# Altium schematic symbol library 二极管.SchLib: 6 symbols
Pins are listed as number, name and electrical type; pins without a type are passive.

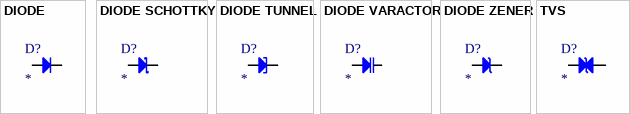
[diagram p0: symbols DIODE to TVS]

## DIODE
designator D?
普通二极管
pins: A, K

## DIODE SCHOTTKY
designator D?
肖特基二极管
pins: A, K

## DIODE TUNNEL
designator D?
隧道二极管
pins: A, K

## DIODE VARACTOR
designator D?
变容二极管
pins: A, K

## DIODE ZENER
designator D?
稳压二极管
pins: A, K

## TVS
designator D?
双向瞬态抑制二极管
pins: A, K